# EAGLE library part RJ12 (library Nextion handheld controller)
Conn RJ-11 SKT 6 POS 2.03mm Solder RA Thru-Hole 6 Terminal 1 Port Tray Cat 3 Check availability <https://pricing.snapeda.com/parts/RJE0166001/Amphenol%20ICC%20%28Commercial%20Products%29/view-part?ref=eda>
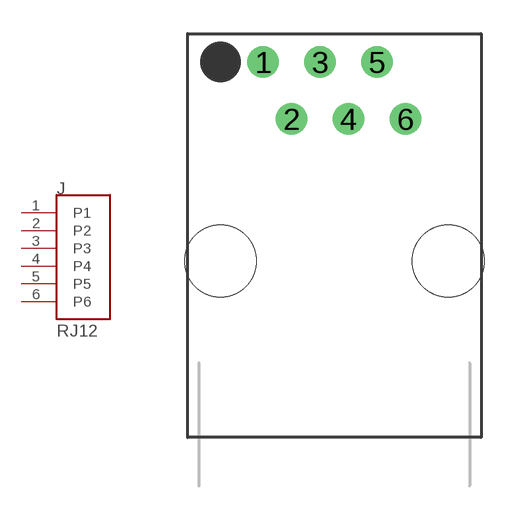
[diagram p2: symbol with the pads of RJ12; footprint RJ12]

Designator prefix J

## RJ12  [RJ12]
1  P1  pas
2  P2  pas
3  P3  pas
4  P4  pas
5  P5  pas
6  P6  pas

## Footprint RJ12 (pad centres in mm)
drill 0.9: 1 -3.175,11.43; 2 -1.905,8.89; 3 -0.635,11.43; 4 0.635,8.89; 5 1.905,11.43; 6 3.175,8.89
hole 3.2 at -5.08,2.54
hole 3.2 at 5.08,2.54